# EAGLE library part 620306124022 (library Wire_to_Board_Connectors_rev15d)
WR-WTB 2.00mm SMT Male Vertical Shrouded Header, 6 Pins=>Code : Con_WTB_2.00_PCB_SMT_620306124022 <http://katalog.we-online.de/media/thumbs2/eican/thb_Con_WTB_2.00_PCB_SMT_6203xx124022_pf2.jpg> Details see: http://katalog.we-online.de/en/em/620_3xx_124_022 Created 2014-06-05, Karrer Zheng 2014 (C) Würth Elektronik
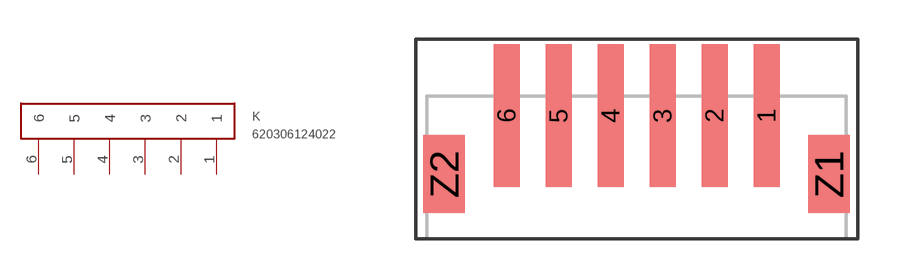
[diagram p35: symbol with the pads of 620306124022; footprint 620306124022]

Designator prefix K

## 620306124022  [620306124022]
1  1  pas
2  2  pas
3  3  pas
4  4  pas
5  5  pas
6  6  pas

## Footprint 620306124022 (pad centres in mm)
WR-WTB 2.00mm SMT Male Vertical Shrouded Header, 6 Pins
smd 1 x 5.5: 1 1,0; 2 -1,0; 3 -3,0; 4 -5,0; 5 -7,0; 6 -9,0
smd 1.6 x 3: Z1 3.4,-2.25; Z2 -11.4,-2.25